# Altium schematic symbol library CD74HC4050MT.SCHLIB: 1 symbol
Pins are listed as number, name and electrical type; pins without a type are passive.

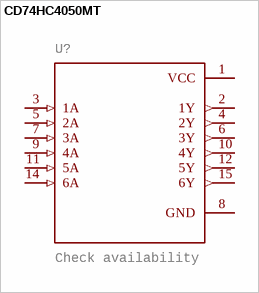
[diagram p0: symbol CD74HC4050MT]

## CD74HC4050MT
designator U?, comment Check availability
GateName_1: A; SymbolName_1: CD74HC4050MT; MF: Texas Instruments; Description: 6-ch, 2-V to 6-V buffers; LibraryName: CD74HC4050MT; DeviceSetName: CD74HC4050MT; Package: SOIC127P600X175-16N; Package: SOIC-16 Texas Instruments; Price: None; Check_prices: https://www.snapeda.com/parts/CD74HC4050MT/Texas+Instruments/view-part/?ref=eda; SnapEDA_Link: https://www.snapeda.com/parts/CD74HC4050MT/Texas+Instruments/view-part/?ref=snap; MP: CD74HC4050MT; Availability: In Stock; Purchase-URL: https://www.snapeda.com/api/url_track_click_mouser/?unipart_id=1170164&manufacturer=Texas Instruments&part_name=CD74HC4050MT&search_term=cd74hc4050
footprint SOIC127P600X175-16N
pins: 1 VCC (power), 2 1Y (out), 3 1A (in), 4 2Y (out), 5 2A (in), 6 3Y (out), 7 3A (in), 8 GND (power), 9 4A (in), 10 4Y (out), 11 5A (in), 12 5Y (out), 14 6A (in), 15 6Y (out)